# EAGLE library part AMC1200 (library IntegratedLib)
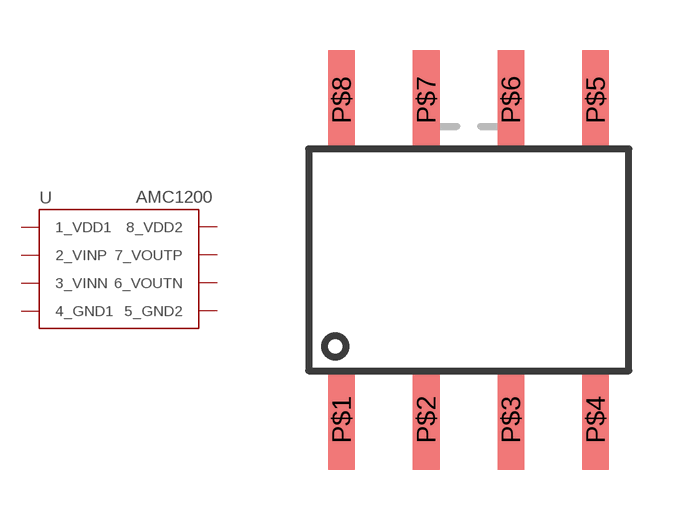
[diagram p50: symbol with the pads of SOP-8; footprint SOP-8]

Designator prefix U

## AMC1200  [SOP-8]
P$1  1_VDD1
P$2  2_VINP
P$3  3_VINN
P$4  4_GND1
P$5  5_GND2
P$6  6_VOUTN
P$7  7_VOUTP
P$8  8_VDD2

## Footprint SOP-8 (pad centres in mm)
smd 0.8 x 3: P$1 -3.81,-4.8; P$2 -1.27,-4.8; P$3 1.27,-4.8; P$4 3.81,-4.8; P$5 3.81,4.8; P$6 1.27,4.8; P$7 -1.27,4.8; P$8 -3.81,4.8